# Altium schematic symbol library MICROCHIP EEPROM I2C 5PIN.SchLib: 1 symbol
Pins are listed as number, name and electrical type; pins without a type are passive.

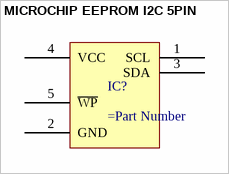
[diagram p0: symbol MICROCHIP EEPROM I2C 5PIN]

## MICROCHIP EEPROM I2C 5PIN
designator IC?
pins: 1 SCL, 2 GND, 3 SDA, 4 VCC, 5 ~{WP}